# Altium schematic symbol library Capacitor.SchLib: 113 symbols (part 2 of 3)
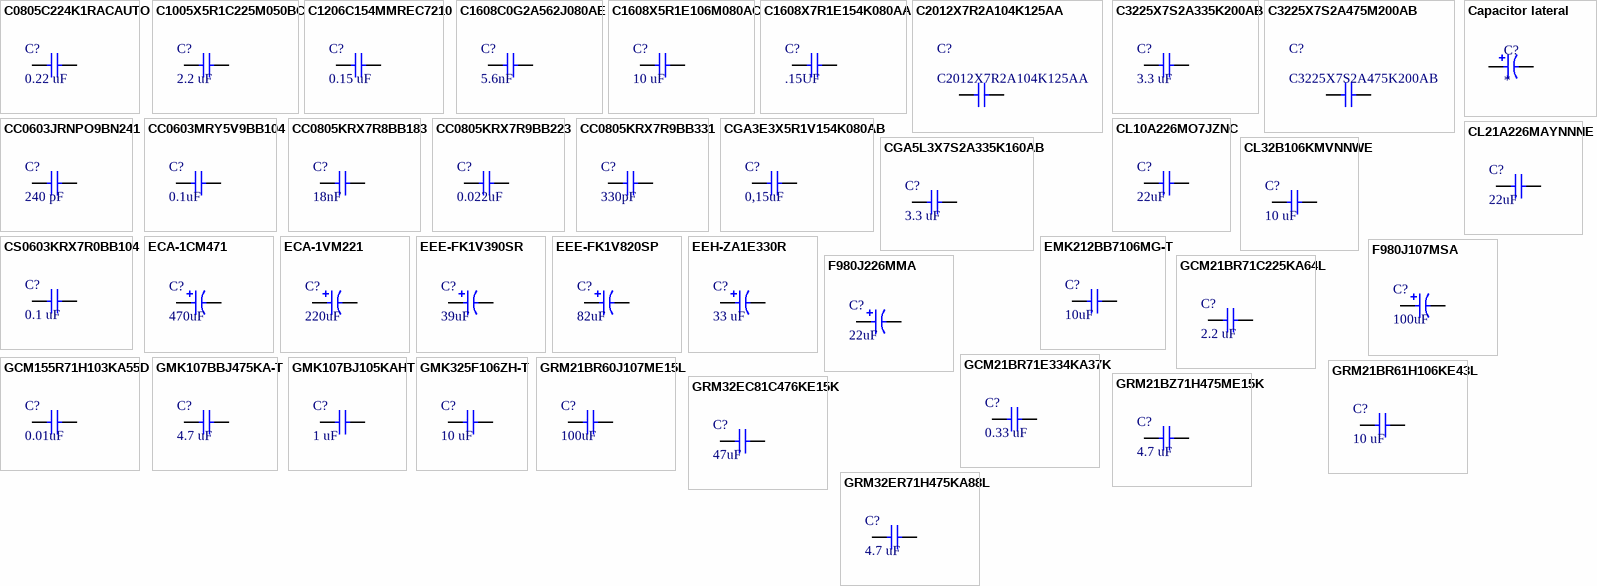
[diagram p3: symbols C0805C224K1RACAUTO to GRM32ER71H475KA88L]

## C1206C154MMREC7210
designator C?, comment 0.15 uF
CAP CER 150nF 63V X7R 1206; Manufacturer: KEMET; Part Number: C1206C154MMREC7210; Tolerance: 20%; Voltage - Rated: 63 VDC; Library Control - Checked Footprint: Yes; Library Control - Person that Checked Footprint: Cage; Supplier 1: Mouser; Category: Ceramic capacitor; Price: 1=0,30 10=0,208 100=0,105 1000=0,064 (USD); Supplier Part Number 1: 80-C1206C154MMRECLR; Library Ref: Capacitor; Operating Temperature: -55 ~125ºC; Package / Case: 1206(3216 Metric); Size / Dimension: 3.2 mm L  x 1.6 mm W x 1.6 mm H; Value: 0.15 uF; ESR: -; Dieletric: X7R; Library Control - Checked Schematic: Yes; Library Control - Last Update: 25/08/22; Library Control - Person that Checked Schematic: Cage; Library Control - Person that did the Last Update Footprint: Cage; Library Control - Person that did the Last Update Schematic: Cage; ComponentLink1Description: Datasheet; ComponentLink1URL: https://br.mouser.com/datasheet/2/212/1/KEM_C1090_X7R_ESD-1103328.pdf; ComponentLink2Description: Mouser Link; ComponentLink2URL: https://br.mouser.com/ProductDetail/KEMET/C1206C154MMREC7210?qs=%2Fha2pyFaduiTiPynh%252BZK1%2FpR7hi5ocWbHoFQjooUfsZooXZx5Z%252BDV11yHKZTkCpA
footprint C1206
pins: 1, 2

## C1608C0G2A562J080AE
designator C?, comment 5.6nF
CAP CER 5.6nF 100V C0G 0603; Manufacturer: TDK; Part Number: C1608C0G2A562J080AE; Tolerance: 5%; Voltage - Rated: 100 VDC; Library Control - Checked Footprint: Yes; Library Control - Person that Checked Footprint: Cage; Supplier 1: Mouser; Category: Ceramic Capacitor; Price: 1=0,31 10=0,216 100=0,123 (USD); Supplier Part Number 1: 810-C1608C0G2A562J08; Library Ref: Capacitor; Operating Temperature: -55 °C ~125 °C; Package / Case: 0603(1608 metric); Size / Dimension: 1.6 mm L x 0.8 mm W x 0.8 mm H; Value: 5.6nF; Dieletric: C0G; Library Control - Checked Schematic: Yes; Library Control - Last Update: 25/08/2022; Library Control - Person that Checked Schematic: Cage; Library Control - Person that did the Last Update Footprint: Cage; Library Control - Person that did the Last Update Schematic: Cage; ComponentLink1Description: Datasheet; ComponentLink1URL: https://product.tdk.com/system/files/dam/doc/product/capacitor/ceramic/mlcc/catalog/mlcc_commercial_soft_en.pdf; ComponentLink2Description: Mouser Link; ComponentLink2URL: https://www.mouser.com/ProductDetail/TDK/C1608C0G2A562J080AE?qs=%2Fha2pyFaduh%2FHzsk5TCUrvkOTpMz09iYWDzauq7OToIM6Wx9n2NG8wyg6vMjF7%252Bz; ComponentLink3Description: ESR; ComponentLink3URL: https://product.tdk.com/en/search/capacitor/ceramic/mlcc/info?part_no=C1608C0G2A562J080AE
footprint C0603
pins: 1, 2

## C1608X5R1E106M080AC
designator C?, comment 10 uF
CAP CER 10uF 25V X5R 0603; Manufacturer: TDK; Part Number: C1608X5R1E106M080AC; Tolerance: 20%; Voltage - Rated: 25 VDC; Library Control - Checked Footprint: Yes; Library Control - Person that Checked Footprint: Nikaum; Supplier 1: MOUSER; Category: Ceramic Capacitor; Price: 1= 0,82, 10= 0,581, 100= 0,382 (USD); Supplier Part Number 1: 810-C1608X5R1E106M; Library Ref: Capacitor; Operating Temperature: -55 C ~ 85 C; Package / Case: 0603 (1608 Metric); Size / Dimension: 1,60 L x 0,80 W x 0,80 H; Value: 10 uF; Dieletric: X5R; Library Control - Checked Schematic: Yes; Library Control - Last Update: 28/06/2021 00:27; Library Control - Person that Checked Schematic: Nikaum; Library Control - Person that did the Last Update Footprint: Nikaum; Library Control - Person that did the Last Update Schematic: Nikaum; ComponentLink1Description: Datasheet; ComponentLink1URL: https://product.tdk.com/system/files/dam/doc/product/capacitor/ceramic/mlcc/catalog/mlcc_commercial_general_en.pdf; ComponentLink2Description: Mouser Link; ComponentLink2URL: https://br.mouser.com/ProductDetail/TDK/C1608X5R1E106M080AC?qs=dfay7wIA1uGdHfZTkqsICA%3D%3D; ComponentLink3Description: ESR; ComponentLink3URL: https://product.tdk.com/en/search/capacitor/ceramic/mlcc/info?part_no=C1608X5R1E106M080AC
footprint C0603
pins: 1, 2

## C1608X7R1E154K080AA
designator C?, comment .15UF
CAP CER .15UF 25V X7R 0603; Manufacturer: MLCC; Tolerance: 10%; Supplier 1: Mouser; Part Number: https://product.tdk.com/system/files/dam/doc/product/capacitor/ceramic/mlcc/catalog/mlcc_commercial_general_en.pdf; Category: Capacitor; Price: 1 = 0.13 USD - 10 = 0.054USD - 100 = 0.044; Supplier Part Number 1: 810-C1608X7R1E154K; Library Ref: Capacitores; Operating Temperature: -55 to +125°C; Package / Case: 0603; Value: .15UF; Voltage - Rated: 25V; Dieletric: X7R; ComponentLink1Description: Mouser Link; ComponentLink1URL: https://br.mouser.com/ProductDetail/TDK/C1608X7R1E154K080AA?qs=NRhsANhppD%252BuvsvmnZxrzg%3D%3D; ComponentLink2Description: Datasheet; ComponentLink2URL: https://product.tdk.com/system/files/dam/doc/product/capacitor/ceramic/mlcc/catalog/mlcc_commercial_general_en.pdf
footprint C0603
pins: 1, 2

## C2012X7R2A104K125AA
designator C?
CAP CER 0.1uF 100V X7R 0805; Manufacturer: TDK; Dielectric Material: Ceramic; Value: 100nF; Multilayer: Yes; Tolerance  (fill in as +-): 10%; Supplier: Avnet; Supplier Part Number: C2012X7R2A104K125A; Part Number: C2012X7R2A104K125AA; RoHS: Yes; Category: Ceramic Capacitors; Stock: 26000; Pricing: 2000=0,0249, 4000=0,0243, 8000=0,0237, 12000=0,0231, 16000=0,0225 (USD); Mounting Technology: Surface Mount; Pins: 2; Package Shape: Rectangular; Case/Package: 0805; Terminal Finish: Nickel; Min Operating Temperature: -55°C; Max Operating Temperature: 125°C; JESD-609 Code: e3; Capacitor Type: Ceramic; Package Style: SMTMeter; Packaging: Tape and Reel; Tolerance (fill in as +-): 10%; Rated DC Voltage (URdc): 100V; Temperature Characteristics Code: X7R; Termination: Wraparound; Length: 2mm; Width: 1.25mm; Height: 1.25mm; Reach SVHC Compliant: Yes; RoHS Compliant: Yes; ComponentLink1URL: https://datasheet.ciiva.com:443/pdfs/VipMasterIC/IC/TDKC/TDKC-S-A0008591847/TDKC-S-A0008591847-1.pdf?src-supplier=IHS+Markit; ComponentLink1Description: https://datasheet.ciiva.com:443/pdfs/VipMasterIC/IC/TDKC/TDKC-S-A0008591847/TDKC-S-A0008591847-1.pdf?src-supplier=IHS+Markit; ComponentLink2URL: https://datasheet.ciiva.com/24216/c2012x7r2a104k125aa-264955-24216361.pdf?src-supplier=Mouser; ComponentLink2Description: https://datasheet.ciiva.com/24216/c2012x7r2a104k125aa-264955-24216361.pdf?src-supplier=Mouser; ComponentLink3URL: https://datasheet.ciiva.com/11788/0900766b80fc5cba-11788142.pdf?src-supplier=Rs; ComponentLink3Description: https://datasheet.ciiva.com/11788/0900766b80fc5cba-11788142.pdf?src-supplier=Rs; ComponentLink4URL: https://datasheet.ciiva.com/28602/1484596-28602235.pdf?src-supplier=Element14; ComponentLink4Description: https://datasheet.ciiva.com/28602/1484596-28602235.pdf?src-supplier=Element14; ComponentLink5URL: https://datasheet.ciiva.com/26834/getdatasheetpartid-741920-26834437.pdf?src-supplier=Verical; ComponentLink5Description: https://datasheet.ciiva.com/26834/getdatasheetpartid-741920-26834437.pdf?src-supplier=Verical; ComponentLink6URL: https://datasheet.ciiva.com/16427/e413-c-16427806.pdf?src-supplier=Future+Electronics; ComponentLink6Description: https://datasheet.ciiva.com/16427/e413-c-16427806.pdf?src-supplier=Future+Electronics; ComponentLink7URL: https://datasheet.ciiva.com/7975/1833281-7975109.pdf?src-supplier=Element14; ComponentLink7Description: https://datasheet.ciiva.com/7975/1833281-7975109.pdf?src-supplier=Element14
footprint C0805
pins: 1, 2

## C3225X7S2A335K200AB
designator C?, comment 3.3 uF
CAP CER 3.3uF 100V X7S 1210; Manufacturer: TDK; Part Number: C3225X7S2A335K200AB; Tolerance: 10%; Voltage - Rated: 100 VDC; Library Control - Checked Footprint: Yes; Library Control - Person that Checked Footprint: Nikuam; Library Control - Person that Checked Schematic: Nikaum; Supplier 1: Mouser; Category: Ceramic Capacitor; Price: 1= 0,88, 10= 0,526, 100= 0,444 (USD); Supplier Part Number 1: 810-C3225X7S2A335K; Library Ref: Capacitor; Operating Temperature: -55 C ~ 125 C; Package / Case: 1210 (3225 Metric); Size / Dimension: 3,20 L x 2,50 W x 2,00 H; Value: 3.3 uF; Dieletric: X7S; Library Control - Checked Schematic: Yes; Library Control - Last Update: 28/06/2021 00:33; Library Control - Person that did the Last Update Footprint: Nikaum; Library Control - Person that did the Last Update Schematic: Nikaum; ComponentLink1Description: Datasheet; ComponentLink1URL: https://product.tdk.com/system/files/dam/doc/product/capacitor/ceramic/mlcc/catalog/mlcc_commercial_midvoltage_en.pdf; ComponentLink2Description: Mouser Link; ComponentLink2URL: https://br.mouser.com/ProductDetail/TDK/C3225X7S2A335K200AB?qs=NRhsANhppD%2FUFz8kLtE2nA%3D%3D; ComponentLink3Description: ESR; ComponentLink3URL: https://product.tdk.com/en/search/capacitor/ceramic/mlcc/info?part_no=C3225X7S2A335K200AB
footprint C1210
pins: 1, 2

## C3225X7S2A475M200AB
designator C?, comment C3225X7S2A475K200AB
CAP CER 4.7uF 100V X7S 1210; Manufacturer: TDK; Dielectric Material: Ceramic; Multilayer: Yes; Tolerance  (fill in as +-): 10%; Supplier: Avnet; Supplier Part Number: C3225X7S2A475K200A; Part Number: C3225X7S2A475K200AB; RoHS: Yes; Category: Ceramic Capacitors; Stock: 2000; Pricing: 1000=0,35198 (USD); Mounting Technology: Surface Mount; Pins: 2; Package Shape: Rectangular; Case/Package: 1210; Terminal Finish: Nickel; Min Operating Temperature: -55°C; Max Operating Temperature: 125°C; JESD-609 Code: e3; Value: 4.7uF; Capacitor Type: Ceramic; Package Style: SMTMeter; Packaging: Tape and Reel; Tolerance (fill in as +-): 10%; Rated DC Voltage (URdc): 100V; Temperature Characteristics Code: X7S; Termination: Wraparound; Length: 3.2mm; Width: 2.5mm; Height: 2mm; Reach SVHC Compliant: Yes; RoHS Compliant: Yes; ComponentLink1URL: https://datasheet.ciiva.com:443/pdfs/VipMasterIC/IC/TDKC/TDKC-S-A0008591847/TDKC-S-A0008591847-1.pdf?src-supplier=IHS+Markit; ComponentLink1Description: https://datasheet.ciiva.com:443/pdfs/VipMasterIC/IC/TDKC/TDKC-S-A0008591847/TDKC-S-A0008591847-1.pdf?src-supplier=IHS+Markit; ComponentLink2URL: https://datasheet.ciiva.com/24217/c3225x7s2a475k200ab-265486-24217083.pdf?src-supplier=Mouser; ComponentLink2Description: https://datasheet.ciiva.com/24217/c3225x7s2a475k200ab-265486-24217083.pdf?src-supplier=Mouser; ComponentLink3URL: https://datasheet.ciiva.com/48671/mlcc-commercial-midvoltage-en-48671371.pdf?src-supplier=Avnet; ComponentLink3Description: https://datasheet.ciiva.com/48671/mlcc-commercial-midvoltage-en-48671371.pdf?src-supplier=Avnet; ComponentLink4URL: https://datasheet.ciiva.com/23803/1796654-23803052.pdf?src-supplier=Newark; ComponentLink4Description: https://datasheet.ciiva.com/23803/1796654-23803052.pdf?src-supplier=Newark; ComponentLink5URL: https://datasheet.ciiva.com/16498/mid-volt-b11-16498735.pdf?src-supplier=Future+Electronics; ComponentLink5Description: https://datasheet.ciiva.com/16498/mid-volt-b11-16498735.pdf?src-supplier=Future+Electronics; ComponentLink6URL: https://datasheet.ciiva.com/28620/mlcc-commercial-general-en-28620697.pdf?src-supplier=Element14; ComponentLink6Description: https://datasheet.ciiva.com/28620/mlcc-commercial-general-en-28620697.pdf?src-supplier=Element14; ComponentLink7URL: https://datasheet.ciiva.com/22725/1913358-22725605.pdf?src-supplier=Element14; ComponentLink7Description: https://datasheet.ciiva.com/22725/1913358-22725605.pdf?src-supplier=Element14; ComponentLink8URL: https://datasheet.ciiva.com/22694/1571323-22694186.pdf?src-supplier=Element14; ComponentLink8Description: https://datasheet.ciiva.com/22694/1571323-22694186.pdf?src-supplier=Element14
footprint C1210
pins: 1, 2

## Capacitor lateral
designator C?
Capacitor eletrolitico lateralizado na placa
footprint Capacitor lateral
pins: 1 (power), 2 (power)

## CC0603JRNPO9BN241
designator C?, comment 240 pF
CAP CER 240pF 50V C0G 0603; Manufacturer: Yageo; Part Number: CC0603JRNPO9BN241; Tolerance: 5%; Voltage - Rated: 50VDC; Dieletric: C0G (NP0); Supplier 1: Mouser; Category: Ceramic capacitor; Price: 1=0.21 10=0.15 100=0.07 1000=0.04 (USD); Supplier Part Number 1: 603-CC603JRNPO9BN241; Library Ref: Capacitor; Operating Temperature: -55 ~125ºC; Package / Case: 0603(1608 metric); Size / Dimension: 0.8 mm W x 1.6 mm L x 0.8 mm H; Value: 240 pF; ESR: -; ComponentLink1Description: Datasheet; ComponentLink1URL: https://br.mouser.com/datasheet/2/447/UPY_NP0X5R_01005_4V_to_25V_V10-3003057.pdf; ComponentLink2Description: Mouser Link; ComponentLink2URL: https://br.mouser.com/ProductDetail/YAGEO/CC0603JRNPO9BN241?qs=57cj7OiSijlgnoFSH5zVNA%3D%3D
footprint C0603
pins: 1, 2

## CC0603MRY5V9BB104
designator C?, comment 0.1uF
CAP CER 100nF 50V Y5V 0603; Manufacturer: Yageo; Part Number: CC0603MRY5V9BB104; Tolerance: 20%; ESR: 0.05; Library Control - Checked Footprint: Yes; Library Control - Person that Checked Footprint: Nikaum; Supplier 1: Mouser; Category: Ceramic Capacitor; Price: 1=0.10, 10=0.045, 100=0.02 (USD); Supplier Part Number 1: 603-C0603MRY5V9BB104; Library Ref: Capacitor; Operating Temperature: -30 C ~ 85 C; Package / Case: 0603 (1608 Metric); Size / Dimension: 0.8 mm W x 1.6 mm L x 0.8 mm H; Value: 0.1uF; Voltage - Rated: 50V; Dieletric: Y5V; Library Control - Checked Schematic: Yes; Library Control - Last Update: 27/06/2021 23:45; Library Control - Person that Checked Schematic: Nikaum; Library Control - Person that did the Last Update Footprint: Nikaum; Library Control - Person that did the Last Update Schematic: Nikaum; ComponentLink1Description: Datasheet; ComponentLink1URL: https://br.mouser.com/datasheet/2/447/UPY_GPHC_Y5V_6_3V_to_50V_9-1827116.pdf; ComponentLink2Description: Mouser Link; ComponentLink2URL: https://br.mouser.com/ProductDetail/Yageo/CC0603MRY5V9BB104?qs=%2Fha2pyFadujNIoVsm%2FhTYqJ%2F27rjqPGzJp9CkMDWOKJKZ5r0hJqeN0wGRPaLjXd0
footprint C0603
pins: 1, 2

## CC0805KRX7R8BB183
designator C?, comment 18nF
CAP CER 18nF 25V X7R 0805; Manufacturer: YAGEO; Part Number: CC0805KRX7R8BB183; Tolerance: 10%; Library Control - Checked Footprint: Yes; Library Control - Person that Checked Footprint: Cage; Library Control - Person that did the Last Update Footprint: Prisma; Supplier 1: Mouser; Category: Ceramic Capacitor; Price: 1=0,17 10=0,108 100=0,051 (USD); Supplier Part Number 1: 603-CC805KRX7R8BB183; Library Ref: Capacitor; Operating Temperature: -55°C ~ 125°C; Package / Case: 0805(2012 Metric); Size / Dimension: 2mm x 1.25mm x 1.45mm; Value: 18nF; Voltage - Rated: 25V; ESR: -; Dieletric: X7R; Library Control - Checked Schematic: Yes; Library Control - Last Update: 22/08/22; Library Control - Person that Checked Schematic: Cage; Library Control - Person that did the Last Update Schematic: Prisma; ComponentLink1Description: Datasheet; ComponentLink1URL: https://br.mouser.com/datasheet/2/447/UPY_NP0X5R_01005_4V_to_25V_V10-3003057.pdf; ComponentLink2Description: Mouser Link; ComponentLink2URL: https://br.mouser.com/ProductDetail/YAGEO/CC0805KRX7R8BB183?qs=57cj7OiSijnVuin8Aiic9w%3D%3D
footprint C0805
pins: 1, 2

## CC0805KRX7R9BB223
designator C?, comment 0.022uF
CAP CER 22nF 50V X7R 0805; Manufacturer: Yageo; Part Number: CC0805KRX7R9BB223; Tolerance: 10%; ESR: 0.05; Library Control - Checked Footprint: Yes; Library Control - Person that Checked Footprint: Nikaum; Supplier 1: Mouser; Category: Ceramic Capacitor; Price: 1=0.12, 10=0.08, 100=0.037 (USD); Supplier Part Number 1: 603-CC805KRX7R9BB223; Library Ref: Capacitor; Operating Temperature: -55 C ~ 125 C; Package / Case: 0805 (2012 Metric); Size / Dimension: 2,00 L x 1,25 W x 0,60 H; Value: 0.022uF; Voltage - Rated: 50V; Dieletric: X7R; Library Control - Checked Schematic: Yes; Library Control - Last Update: 27/06/2021 23:51; Library Control - Person that Checked Schematic: Nikaum; Library Control - Person that did the Last Update Footprint: Nikaum; Library Control - Person that did the Last Update Schematic: Nikaum; ComponentLink1Description: Datasheet; ComponentLink1URL: https://br.mouser.com/datasheet/2/447/UPY_GPHC_X7R_6_3V_to_50V_20-1995650.pdf; ComponentLink2Description: Mouser Link; ComponentLink2URL: https://br.mouser.com/ProductDetail/Yageo/CC0805KRX7R9BB223?qs=%2Fha2pyFaduhNpscxq1sti6SBX%2FsNUcHVvYovyvuH01Fd31rmDpwj9NJuQiKX%2FEPC
footprint C0805
pins: 1, 2

## CC0805KRX7R9BB331
designator C?, comment 330pF
CAP CER 330pF 50V X7R 0805; Manufacturer: Yageo; Part Number: CC0805KRX7R9BB331; Tolerance: 10%; ESR: 0.05; Library Control - Checked Footprint: Yes; Library Control - Person that Checked Footprint: Nikaum; Supplier 1: Mouser; Category: Ceramic Capacitor; Price: 1=0.12, 10=0.083, 100=0.039 (USD); Supplier Part Number 1: 603-CC805KRX7R9BB331; Library Ref: Capacitor; Operating Temperature: -55 C ~ 125 C; Package / Case: 0805 (2012 Metric); Size / Dimension: 2,00 L x 1,25 W x 0,60 H; Value: 330pF; Voltage - Rated: 50V; Dieletric: X7R; Library Control - Checked Schematic: Yes; Library Control - Last Update: 27/06/2021 23:53; Library Control - Person that Checked Schematic: Nikaum; Library Control - Person that did the Last Update Footprint: Nikaum; Library Control - Person that did the Last Update Schematic: Nikaum; ComponentLink1Description: Datasheet; ComponentLink1URL: https://br.mouser.com/datasheet/2/447/UPY_GPHC_X7R_6_3V_to_50V_20-1995650.pdf; ComponentLink2Description: Mouser Link; ComponentLink2URL: https://br.mouser.com/ProductDetail/Yageo/CC0805KRX7R9BB331?qs=%2Fha2pyFaduhNpscxq1sti6SBX%2FsNUcHVfYCJFeu65yqye3sdCJm%252B%252BSPd8pfuI7w1
footprint C0805
pins: 1, 2

## CGA3E3X5R1V154K080AB
designator C?, comment 0,15uF
CAP CER 150nF 35V X5R 0603; Manufacturer: TDK; Part Number: CGA3E3X5R1V154K080AB; Tolerance: 10%; Voltage - Rated: 35 VDC; Library Control - Checked Schematic: Yes; Library Control - Person that Checked Footprint: Stéfany (Sster); Library Control - Person that did the Last Update Schematic: Maria Laura; Supplier 1: Mouser; Category: Ceramic Capacitor; Price: 1=0,24 10=0,163 100=0,083 (USD); Supplier Part Number 1: 810-CGA3E3X5R1V154KB; Library Ref: Capacitor; Operating Temperature: -55 C ~85 C; Package / Case: 0603(1608 metric); Size / Dimension: 1.6 mm L x 0.8 mm W x 0.8 mm H; Value: 0,15uF; ESR: https://product.tdk.com/en/search/capacitor/ceramic/mlcc/info?part_no=CGA3E3X5R1V154K080AB; Dieletric: X5R; Library Control - Last Update: 09/09/2021 15:04; Library Control - Person that Checked Schematic: Stéfany (Sster); ComponentLink1Description: Datasheet; ComponentLink1URL: https://product.tdk.com/system/files/dam/doc/product/capacitor/ceramic/mlcc/catalog/mlcc_automotive_general_en.pdf; ComponentLink2Description: Mouser Link; ComponentLink2URL: https://www.mouser.com/ProductDetail/TDK/CGA3E3X5R1V154K080AB?qs=xLDY6iXSiQZeepRP8xUtyQ%3D%3D; ComponentLink3Description: ESR; ComponentLink3URL: https://product.tdk.com/en/search/capacitor/ceramic/mlcc/info?part_no=CGA3E3X5R1V154K080AB
footprint C0603
pins: 1, 2

## CGA5L3X7S2A335K160AB
designator C?, comment 3.3 uF
CAP CER 3.3 uF 100V X7S 1206; Manufacturer: TDK; Part Number: CGA5L3X7S2A335K160AB; Tolerance: 10%; Voltage - Rated: 100 VDC; Library Control - Checked Footprint: Yes; Supplier 1: Mouser; Category: Ceramic capacitor; Price: 1=0,30 10=0,208 100=0,105 1000=0,064 (USD); Supplier Part Number 1: 810-CGA5L3X7S2A335KB; Library Ref: Capacitor; Operating Temperature: -55 ~125ºC; Package / Case: 1206(3216 Metric); Size / Dimension: 3.2 mm L  x 1.6 mm W x 1.6 mm H; Value: 3.3 uF; ESR: -; Dieletric: X7S; Library Control - Checked Schematic: Yes; ComponentLink1Description: Datasheet; ComponentLink1URL: https://product.tdk.com/system/files/dam/doc/product/capacitor/ceramic/mlcc/catalog/mlcc_automotive_midvoltage_en.pdf; ComponentLink2Description: Mouser Link; ComponentLink2URL: https://br.mouser.com/ProductDetail/TDK/CGA5L3X7S2A335K160AB?qs=Zt%252BKPUOg4oe54GqqT0Ttwg%3D%3D
footprint C1206
pins: 1, 2

## CL10A226MO7JZNC
designator C?, comment 22uF
CAP CER 22uF 16V X5R 0603; Manufacturer: Samsung; Part Number: CL10A226MO7JZNC; Tolerance: 20%; Library Control - Checked Footprint: Yes; Library Control - Person that Checked Footprint: Cage; Supplier 1: Mouser; Category: Ceramic Capacitors; Price: 1 = 0,66, 10=0,465, 100=0,306 (USD); Supplier Part Number 1: 187 - CL10A226MO7JZNC; Library Ref: Capacitor; Operating Temperature: -55°C ~ 85°C; Package / Case: 0603; Value: 22uF; Voltage - Rated: 16V; ESR: -; Dieletric: X5R; Library Control - Checked Schematic: Yes; Library Control - Last Update: 25/08/22; Library Control - Person that Checked Schematic: Cage; Library Control - Person that did the Last Update Footprint: Cage; Library Control - Person that did the Last Update Schematic: Cage; ComponentLink1Description: Datasheet; ComponentLink1URL: https://br.mouser.com/datasheet/2/585/MLCC-1837944.pdf; ComponentLink2Description: Mouser Link; ComponentLink2URL: https://br.mouser.com/ProductDetail/Samsung-Electro-Mechanics/CL10A226MO7JZNC?qs=xZ%2FP%252Ba9zWqb2i0I9rwAjeg%3D%3D
footprint C0603
pins: 1, 2

## CL21A226MAYNNNE
designator C?, comment 22uF
CAP CER 22uF 25V X5R 0805; Manufacturer: Samsung; Part Number: CL21A226MAYNNNE; Tolerance: 20%; ESR: 0.05; Library Control - Checked Footprint: Yes; Library Control - Person that Checked Footprint: Nikaum; Library Control - Person that did the Last Update Footprint: Prisma; Supplier 1: Mouser; Category: Ceramic Capacitor; Price: 1=0,38, 10=0,19, 100=0,14 (USD); Supplier Part Number 1: 187-CL21A226MAYNNNE; Library Ref: Capacitor; Operating Temperature: -55 C ~ 85 C; Package / Case: 0805 (2012 metric); Size / Dimension: 2,00 L x 1,25 W x 1,35 H; Value: 22uF; Voltage - Rated: 25V; Dieletric: X5R; Library Control - Checked Schematic: Yes; Library Control - Last Update: 25/08/22; Library Control - Person that Checked Schematic: Nikaum; Library Control - Person that did the Last Update Schematic: Prisma; ComponentLink1Description: Datasheet; ComponentLink1URL: https://br.mouser.com/datasheet/2/585/MLCC-1837944.pdf; ComponentLink2Description: Mouser Link; ComponentLink2URL: https://br.mouser.com/ProductDetail/Samsung-Electro-Mechanics/CL21A226MAYNNNE?qs=%2Fha2pyFaduhiBLIsx5DshsHJNiaGLG%2F%2FQ%2FEW0rlhIwqpbRT7zlvlzaSNzFrrEIrv
footprint C0805
pins: 1, 2

## CL32B106KMVNNWE
designator C?, comment 10 uF
CAP CER 10uF 63V X7R 1210; Manufacturer: Samsung; Part Number: CL32B106KMVNNWE; Tolerance: 10%; Voltage - Rated: 63 VDC; Supplier 1: Mouser; Category: Ceramic Capacitor; Price: 1= 0,88, 10= 0,526, 100= 0,444 (USD); Supplier Part Number 1: 187-CL32B106KMVNNWE; Library Ref: Capacitor; Operating Temperature: -55 C ~ 125 C; Package / Case: 1210 (3225 Metric); Size / Dimension: 3,20 L x 2,50 W x 2,00 H; Value: 10 uF; Dieletric: X7R; ComponentLink1Description: Datasheet; ComponentLink1URL: https://br.mouser.com/datasheet/2/585/MLCC-1837944.pdf; ComponentLink2Description: Mouser Link; ComponentLink2URL: https://br.mouser.com/ProductDetail/Samsung-Electro-Mechanics/CL32B106KMVNNWE?qs=xZ%2FP%252Ba9zWqaEMBbSgKy8gQ%3D%3D
footprint C1210
pins: 1, 2

## CS0603KRX7R0BB104
designator C?, comment 0.1 uF
CAP CER 0.1 uF 100V X7R 0603; Manufacturer: Yageo; Part Number: CS0603KRX7R0BB104; Tolerance: 10%; Library Control - Checked Footprint: Yes; Supplier 1: Mouser; Category: Ceramic Capacitors; Price: 1=0,120, 10=0,065, 100=0,033 (USD); Supplier Part Number 1: 603-CS0603KRX70BB104; Library Ref: Ceramic Capacitors; Operating Temperature: -55°C ~ 125°C; Package / Case: 0603 (1608 Metric); Size / Dimension: 1.6 mm L x   0.8 mm W x  0.8 mm H; Value: 0.1 uF; Voltage - Rated: 100V; Dieletric: X7R; Library Control - Checked Schematic: Yes; ComponentLink1Description: Datasheet; ComponentLink1URL: https://br.mouser.com/datasheet/2/447/UPY_ST_NPOX7R_16V_to_3KV_8-3003022.pdf; ComponentLink2Description: Mouser Link; ComponentLink2URL: https://br.mouser.com/ProductDetail/YAGEO/CS0603KRX7R0BB104?qs=CNuWj9FTWYDXHSQFl2xZaQ%3D%3D
footprint C0603
pins: 1, 2

## ECA-1CM471
designator C?, comment 470uF
CAP POL 470uF 16V 20% 11.5mx8mm; Manufacturer: Panasonic; Part Number: ECA-1CM471; Dieletric: Aluminium; Library Control - Checked Footprint: Yes; Library Control - Person that Checked Footprint: Cage; Supplier 1: Mouser; Category: Aluminium Eletrolytic Capacitor; Price: 1 = 0,39, 10=0,272, 100=0,164 (USD); Supplier Part Number 1: 667-ECA-1CM471; Library Ref: Capacitor; Operating Temperature: -40 C ~ 85 C; Package / Case: Radial; Size / Dimension: 8,00 D x 11,50 L x 3,50 LS; Tolerance: 20%; Value: 470uF; Voltage - Rated: 16V; ESR: -; Library Control - Checked Schematic: Yes; Library Control - Last Update: 25/08/22; Library Control - Person that Checked Schematic: Cage; Library Control - Person that did the Last Update Footprint: Cage; Library Control - Person that did the Last Update Schematic: Cage; ComponentLink1Description: Datasheet; ComponentLink1URL: https://br.mouser.com/datasheet/2/315/ABA0000C1218-1131230.pdf; ComponentLink2Description: Mouser Link; ComponentLink2URL: https://br.mouser.com/ProductDetail/Panasonic/ECA-1CM471?qs=rwrfEU2MbmYmsOaInvnewQ%3D%3D
footprint PTH Ø8x11.5mm
pins: 1, 2

## ECA-1VM221
designator C?, comment 220uF
CAP POL 220uF 35V 20% 11.5mx8mm; Manufacturer: Panasonic; Part Number: ECA-1VM221; Dieletric: Aluminium; Library Control - Checked Footprint: Yes; Library Control - Person that Checked Footprint: Cage; Supplier 1: Mouser; Category: Aluminium Eletrolytic Capacitor; Price: 1 = 0,39 10=0,272 100=0,164 (USD); Supplier Part Number 1: 667-ECA-1VM221; Library Ref: Capacitor; Operating Temperature: -40 C ~ 85 C; Package / Case: Radial; Size / Dimension: 8,00 D x 11,50 L x 3,50 LS; Tolerance: 20%; Value: 220uF; Voltage - Rated: 35V; ESR: -; Library Control - Checked Schematic: Yes; Library Control - Last Update: 25/08/22; Library Control - Person that Checked Schematic: Cage; Library Control - Person that did the Last Update Footprint: Cage; Library Control - Person that did the Last Update Schematic: Cage; ComponentLink1Description: Datasheet; ComponentLink1URL: https://br.mouser.com/datasheet/2/315/ABA0000C1218-1131230.pdf; ComponentLink2Description: Mouser Link; ComponentLink2URL: https://br.mouser.com/ProductDetail/Panasonic/ECA-1VM221?qs=TMd%2FqrwkF8jzDq2TCVW7zA%3D%3D
footprint PTH Ø8x11.5mm
pins: 1, 2

## EEE-FK1V390SR
designator C?, comment 39uF
CAP POL SMD 39uF 35V 20% 5x5.8mm; Manufacturer: Panasonic; Part Number: EEE-FK1V390SR; ESR: 700mOhms; Dieletric: Aluminium; Library Control - Checked Footprint: Yes; Library Control - Person that Checked Footprint: Nikaum; Library Control - Person that did the Last Update Footprint: Prisma; Supplier 1: Mouser; Category: SMD Aluminium Eletrolytic Capacitor; Price: 1 = 0,49, 10=0,35, 100=0,231 (USD); Supplier Part Number 1: 667-EEE-FK1V390SR; Library Ref: Capacitor; Operating Temperature: -55 C ~ 105 C; Package / Case: SMD Mounted, Radial; Size / Dimension: 5,00 D x 5,80 L; Tolerance: 20%; Value: 39uF; Voltage - Rated: 35V; Library Control - Checked Schematic: Yes; Library Control - Last Update: 25/08/22; Library Control - Person that Checked Schematic: Nikaum; Library Control - Person that did the Last Update Schematic: Prisma; ComponentLink1Description: Datasheet; ComponentLink1URL: https://br.mouser.com/datasheet/2/315/ABA0000C1251-1138508.pdf; ComponentLink2Description: Mouser Link; ComponentLink2URL: https://br.mouser.com/ProductDetail/Panasonic/EEE-FK1V390SR?qs=%2Fha2pyFadug8Pl57h5%252BWR2eMrrWimnxXCpFskNzPXYGckKUHYfYmDqAggXEFpOO7
footprint Aluminum SMD
pins: 1, 2

## EEE-FK1V820SP
designator C?, comment 82uF
CAP POL SMD 82uF 35V 20% 6.3mm x 5.7mm; Manufacturer: Panasonic; Part Number: EEE-FK1V820SP; ESR: 360mOhms; Dieletric: Aluminium; Library Control - Checked Footprint: Yes; Library Control - Person that Checked Footprint: Nikaum; Library Control - Person that did the Last Update Footprint: Prisma; Supplier 1: Mouser; Category: Eletrolytic Capacitor; Price: 1 = 0,58, 10=0,415, 100=0,274 (USD); Supplier Part Number 1: 667-EEE-FK1V820SP; Library Ref: Capacitor; Operating Temperature: -55 C ~ 105 C; Package / Case: SMD Mounted, Radial; Size / Dimension: 6,30 D x 5,80 L; Tolerance: 20%; Value: 82uF; Voltage - Rated: 35V; Library Control - Checked Schematic: Yes; Library Control - Last Update: 25/08/22; Library Control - Person that Checked Schematic: Nikaum; Library Control - Person that did the Last Update Schematic: Prisma; ComponentLink1Description: Datasheet; ComponentLink1URL: https://br.mouser.com/datasheet/2/315/ABA0000C1251-1138508.pdf; ComponentLink2Description: Mouser Link; ComponentLink2URL: https://br.mouser.com/ProductDetail/Panasonic/EEE-FK1V820SP?qs=%2Fha2pyFadug8Pl57h5%252BWR0iCvTw1HLvwe2qObtFgbgoyyK%252BsNgHX%252BSEmXN6eogzq
footprint ALUMINUM SMD Ø6.3x5.7mm (Aluminum Electrolytic Capacitor, Body 6,70x6,70x5,80mm, IPC Low Density)
pins: 1, 2

## EEH-ZA1E330R
designator C?, comment 33 uF
CAP POL 33uF 25V X7R 5mm x 5.8mm; Manufacturer: Panasonic; Part Number: EEH-ZA1E330R; Tolerance: 20%; ESR: 80 mOhms; Dieletric: Aluminium; Library Control - Checked Footprint: Yes; Library Control - Person that Checked Footprint: Cage; Library Control - Person that did the Last Update Footprint: Prisma; Supplier 1: Mouser; Category: Aluminum Organic Polymer Capacitors; Price: 1= 1,46, 10= 1,16, 100= 0,866 (USD); Supplier Part Number 1: 667-EEH-ZA1E330R; Library Ref: Capacitor; Operating Temperature: -55C ~ +105C; Package / Case: Radial; Size / Dimension: 5mm x 5.8mm (DxL); Value: 33 uF; Voltage - Rated: 25V; Library Control - Checked Schematic: Yes; Library Control - Last Update: 25/08/22; Library Control - Person that Checked Schematic: Cage; Library Control - Person that did the Last Update Schematic: Prisma; ComponentLink1Description: Mouser Link; ComponentLink1URL: https://br.mouser.com/ProductDetail/Panasonic/EEH-ZA1E330R?qs=%2Fha2pyFadujEr1IWpHTRo27Kag%2FIHm4Z2ihP6QJF7P4OlKsb2nRpOQ%3D%3D; ComponentLink2Description: Datasheet; ComponentLink2URL: https://br.mouser.com/datasheet/2/315/ABA0000C1221-1280637.pdf
footprint CAPAE6553X61M (Aluminum Electrolytic Capacitor, Body 5,30x5,30x6,10mm, IPC Low Density)
pins: 1, 2

## EMK212BB7106MG-T
designator C?, comment 10uF
CAP CER 10uF 16V X7R 0805; Manufacturer: Taiyo Yuden; Part Number: EMK212BB7106MG-T; Tolerance: 20%; Voltage - Rated: 16V DC; Library Control - Checked Footprint: Yes; Library Control - Person that Checked Footprint: Cage; Library Control - Person that did the Last Update Footprint: Chico; Supplier 1: Mouser; Category: Ceramic Capacitors; Price: 1=0.42, 10=0.204, 100=0.175 (USD); Supplier Part Number 1: 963-EMK212BB7106MG-T; Library Ref: Capacitor; Operating Temperature: -55°C~+125°C; Package / Case: 0805; Size / Dimension: 1.25mm X 2mm X 1.45mm; Value: 10uF; Dieletric: X7R; Library Control - Checked Schematic: Yes; Library Control - Last Update: 22/08/22; Library Control - Person that Checked Schematic: Cage; Library Control - Person that did the Last Update Schematic: Cage; ComponentLink1Description: Datasheet; ComponentLink1URL: https://br.mouser.com/datasheet/2/396/mlcc02_e-1307760.pdf; ComponentLink2Description: Mouser Link; ComponentLink2URL: https://br.mouser.com/ProductDetail/Taiyo-Yuden/EMK212BB7106MG-T?qs=sGAEpiMZZMsh%252B1woXyUXj9%252BEWUGdOab8mJU%252BgghcgP8%3D
footprint C0805
pins: 1, 2

## F980J107MSA
designator C?, comment 100uF
CAP TAN 100uF 6.3V 0805; Manufacturer: AVX; Part Number: F980J107MSA; Tolerance: 20%; ESR: 8 Ohms using (100kHz); Dieletric: Tantalum; Library Control - Checked Footprint: Yes; Library Control - Person that Checked Footprint: Nikaum; Supplier 1: Mouser; Category: Tantalum Capacitor; Price: 1=0.87, 10=0.646, 100=0.443 (USD); Supplier Part Number 1: 581-F980J107MSA; Library Ref: Capacitor; Operating Temperature: -55 C ~ 125 C; Package / Case: 0805 (2012 Metric); Size / Dimension: 2,00 L x 1,25 W x 0,80 H; Value: 100uF; Voltage - Rated: 6.3V; Library Control - Checked Schematic: Yes; Library Control - Last Update: 27/06/2021 23:37; Library Control - Person that Checked Schematic: Nikaum; Library Control - Person that did the Last Update Footprint: Nikaum; Library Control - Person that did the Last Update Schematic: Nikaum; ComponentLink1Description: Datasheet; ComponentLink1URL: https://br.mouser.com/datasheet/2/40/AVX_F98%20DTSH%2008_16-1158749.pdf; ComponentLink2Description: Mouser Link; ComponentLink2URL: https://br.mouser.com/ProductDetail/AVX/F980J107MSA?qs=%2Fha2pyFaduiqmyJM1RWxJ6tWf%252BqxluChd36%252Bz6k56%252ByF7CmEPS5MIQ%3D%3D
footprint TANTALUM C0805
pins: 1, 2

## F980J226MMA
designator C?, comment 22uF
CAP TAN 22uF 6.3V 0603; Manufacturer: AVX; Part Number: F980J226MMA; Tolerance: 20%; ESR: 6 Ohms; Dieletric: Tantalum; Library Control - Checked Footprint: Yes; Library Control - Person that Checked Footprint: Nikaum; Library Control - Person that did the Last Update Footprint: Prisma; Supplier 1: Mouser; Category: Tantalum Capacitor; Price: 1 = 0,68, 10=0,478, 100=0,315 (USD); Supplier Part Number 1: 647-F980J226MMA; Library Ref: Capacitor; Operating Temperature: -55 C ~ 125 C; Package / Case: 0603 (1608 Metric); Size / Dimension: 1,60 L x 0,85 W x 0,80 H; Value: 22uF; Voltage - Rated: 6.3V; Library Control - Checked Schematic: Yes; Library Control - Last Update: 25/08/22; Library Control - Person that Checked Schematic: Nikaum; Library Control - Person that did the Last Update Schematic: Prisma; ComponentLink1Description: Datasheet; ComponentLink1URL: https://br.mouser.com/datasheet/2/40/AVX_F98%20DTSH%2008_16-1158749.pdf; ComponentLink2Description: Mouser Link; ComponentLink2URL: https://br.mouser.com/ProductDetail/AVX/F980J226MMA?qs=%2Fha2pyFadujX%2FtPo6us3LKqC08nSC7LuR55MTleiyuYwEisNTuy1Qg%3D%3D
footprint C0603
pins: 1, 2

## GCM21BR71C225KA64L
designator C?, comment 2.2 uF
CAP CER 2.2uF 16V X7R 0805; Manufacturer: MURATA ELECTRONICS; Part Number: GCM21BR71C225KA64L; Tolerance: 10%; Voltage - Rated: 16 VDC; Library Control - Checked Footprint: Yes; Library Control - Person that Checked Footprint: Cage; Supplier 1: Mouser; Category: Ceramic capacitor; Price: 1=0,41 10=0,283 100=0,169 1000=0,107 (USD); Supplier Part Number 1: 81-GCM21BR71C225KA4L; Library Ref: Capacitor; Operating Temperature: -55°C ~125ºC; Package / Case: 0805(2012 Metric); Size / Dimension: 2 mm L  x 1.25 mm W x 1.25 mm H; Value: 2.2 uF; ESR: -; Dieletric: X7R; Library Control - Checked Schematic: Yes; Library Control - Last Update: 25/08/22; Library Control - Person that Checked Schematic: Cage; Library Control - Person that did the Last Update Footprint: Cage; Library Control - Person that did the Last Update Schematic: Cage; ComponentLink1Description: Datasheet; ComponentLink1URL: https://br.mouser.com/ProductDetail/Murata-Electronics/GCM21BR71C225KA64L?qs=aEuGZpxfbxV0E5XH%252BwYupA%3D%3D; ComponentLink2Description: Mouser Link; ComponentLink2URL: https://br.mouser.com/ProductDetail/Murata-Electronics/GCM21BR71C225KA64L?qs=aEuGZpxfbxV0E5XH%252BwYupA%3D%3D
footprint C0805
pins: 1, 2

## GCM21BR71E334KA37K
designator C?, comment 0.33 uF
CAP CER 330nF 25V X7R 0805; Manufacturer: Murata Eletronics; Part Number: GCM21BR71E334KA37K; Tolerance: 10%; Voltage - Rated: 25 VDC; Library Control - Checked Footprint: Yes; Library Control - Person that Checked Footprint: Nikaum; Supplier 1: Mouser; Category: Ceramic Capacitor; Price: 1= 0,57, 10= 0,398, 100= 0,239 (USD); Supplier Part Number 1: 81-GCM21BR71E334KA7K; Library Ref: Capacitor; Operating Temperature: -55 C ~ 125 C; Package / Case: 0805 (2012 Metric); Size / Dimension: 2,00 L x 1,25 W x 1,25 H; Value: 0.33 uF; Dieletric: X7R; Library Control - Checked Schematic: Yes; Library Control - Last Update: 28/06/2021 00:57; Library Control - Person that Checked Schematic: Nikaum; Library Control - Person that did the Last Update Footprint: Nikaum; Library Control - Person that did the Last Update Schematic: Nikaum; ComponentLink1Description: Datasheet; ComponentLink1URL: https://br.mouser.com/datasheet/2/281/GCM21BR71E334KA37_01-1968656.pdf; ComponentLink2Description: Mouser Link; ComponentLink2URL: https://br.mouser.com/ProductDetail/Murata-Electronics/GCM21BR71E334KA37K?qs=N3Kl9KD794Tg%2FXM5q2uFQQ%3D%3D; ComponentLink3Description: ESR; ComponentLink3URL: https://www.murata.com/en-us/products/productdetail?partno=GCM21BR71E334KA37%23
footprint C0805
pins: 1, 2

## GCM155R71H103KA55D
designator C?, comment 0.01uF
CAP CER 10nF 50V X7R 0402; Manufacturer: MURATA ELECTRONICS; Part Number: GCM155R71H103KA55D; Tolerance: 10%; Voltage - Rated: 50VDC; Library Control - Checked Footprint: Yes; Library Control - Person that Checked Footprint: Cage; Supplier 1: Mouser; Category: Ceramic capacitor; Price: 1=0.10 10=0.05 100=0.018 1000=0.01 (USD); Supplier Part Number 1: 81-GCM155R71H103KA5D; Library Ref: Capacitor; Operating Temperature: -55 ~125ºC; Package / Case: 0402(1005 metric); Size / Dimension: 0.5 mm W x 1 mm L x 0.5 mm H; Value: 0.01uF; ESR: -; Dieletric: X7R; Library Control - Checked Schematic: Yes; Library Control - Last Update: 25/08/2022; Library Control - Person that Checked Schematic: Cage; Library Control - Person that did the Last Update Footprint: Cage; Library Control - Person that did the Last Update Schematic: Cage; ComponentLink1Description: Datasheet; ComponentLink1URL: https://br.mouser.com/datasheet/2/281/GCM155R71H103KA55_01-1965603.pdf; ComponentLink2Description: Mouser Link; ComponentLink2URL: https://br.mouser.com/ProductDetail/Murata-Electronics/GCM155R71H103KA55D?qs=aEuGZpxfbxUFaK62TPaKIA%3D%3D
footprint C0402
pins: 1, 2

## GMK107BBJ475KA-T
designator C?, comment 4.7 uF
CAP CER 4.7uF 35V X5R 0603; Manufacturer: TAIYO YUDEN; Part Number: GMK107BBJ475KA-T; Tolerance: 10 %; Voltage - Rated: 35 VDC; Library Control - Person that did the Last Update Footprint: Tatá; Supplier 1: Mouser; Category: Multilayer Ceramic Capacitors; Price: 1=0,45, 10=0,217, 50=0,217, 100=0,14, 1000=0,118, 10000=0,095 (USD); Supplier Part Number 1: 963-GMK107BBJ475KA-T; Library Ref: Capacitor; Operating Temperature: -55 ~ 85 C; Package / Case: 0603 (1608 metric); Size / Dimension: 1.6 mm x  0.8 mm; Value: 4.7 uF; ESR: -; Dieletric: X5R; Library Control - Last Update: 19/11/23; Library Control - Person that did the Last Update Schematic: Tatá; ComponentLink1Description: Mouser Link; ComponentLink1URL: https://br.mouser.com/ProductDetail/TAIYO-YUDEN/GMK107BBJ475KA-T?qs=xZ%2FP%252Ba9zWqa%2FCtiTdgsdvg%3D%3D; ComponentLink2Description: Datasheet; ComponentLink2URL: https://datasheet.octopart.com/GMK107BBJ475KA-T-Taiyo-Yuden-datasheet-149523865.pdf?src-supplier=Farnell
footprint C0603
pins: 1, 2

## GMK107BJ105KAHT
designator C?, comment 1 uF
CAP CER 1uF 35V X5R 0603; Manufacturer: TAIYO YUDEN; Part Number: GMK107BJ105KAHT; Tolerance: 10%; Voltage - Rated: 35 VDC; Library Control - Checked Footprint: Yes; Library Control - Person that Checked Footprint: Nikaum; Supplier 1: MOUSER; Category: Ceramic Capacitor; Price: 1= 0.16, 10= 0,095, 100= 0,049 (USD); Supplier Part Number 1: 963-GMK107BJ105KAHT; Library Ref: Capacitor; Operating Temperature: -55 C ~ 85 C; Package / Case: 0603 (1608 Metric); Size / Dimension: 1,60 L x 0,80 W x 0,90 H; Value: 1 uF; ESR: -; Dieletric: X5R; Library Control - Checked Schematic: Yes; Library Control - Last Update: 28/06/2021 00:40; Library Control - Person that Checked Schematic: Nikaum; Library Control - Person that did the Last Update Footprint: Nikaum; Library Control - Person that did the Last Update Schematic: Nikaum; ComponentLink1Description: Datasheet; ComponentLink1URL: https://br.mouser.com/datasheet/2/396/taiyo_yuden_12132018_mlcc11_hq_e-1510082.pdf; ComponentLink2Description: Mouser Link; ComponentLink2URL: https://br.mouser.com/ProductDetail/Taiyo-Yuden/GMK107BJ105KAHT?qs=%2Fha2pyFadugfgsXIlkotQ92wbBztYfVCYQK4eynXE%252B0k6svEXRnruHVeQhZpuewN
footprint C0603
pins: 1, 2

## GMK325F106ZH-T
designator C?, comment 10 uF
CAP CER 10uF 35V Y5V 1210; Manufacturer: TAIYO YUDEN; Part Number: GMK325F106ZH-T; Tolerance: -20 %, +80 %; Voltage - Rated: 35 VDC; Library Control - Checked Footprint: Yes; Library Control - Person that Checked Footprint: Nikaum; Library Control - Person that did the Last Update Footprint: Guilherme; Supplier 1: MOUSER; Category: Ceramic Capacitor; Price: 1=0,43, 10=0,252, 100= 0,157 (USD); Supplier Part Number 1: 963-GMK325F106ZH-T; Library Ref: Capacitor; Operating Temperature: -30 C ~ 85 C; Package / Case: 1210 (3225 Metric); Size / Dimension: 3,20 L x 2,50 W x 2,50 H; Value: 10 uF; ESR: -; Dieletric: Y5V; Library Control - Checked Schematic: Yes; Library Control - Last Update: 28/06/2021 00:42; Library Control - Person that Checked Schematic: Nikaum; Library Control - Person that did the Last Update Schematic: Nikaum; ComponentLink1Description: Datasheet; ComponentLink1URL: https://br.mouser.com/datasheet/2/396/taiyo_yuden_12132018_mlcc11_hq_e-1510082.pdf; ComponentLink2Description: Mouser Link; ComponentLink2URL: https://br.mouser.com/ProductDetail/Taiyo-Yuden/GMK325F106ZH-T?qs=%2Fha2pyFaduhOk8nAVfqJawU3cTWB3FiT1SOVkRMPnmGYS8Viy45jdLZMrR2Z8zty
footprint C1210
pins: 1, 2

## GRM21BR60J107ME15L
designator C?, comment 100uF
CAP CER 100uF 6.3V X5R 0805; Manufacturer: Murata; Part Number: GRM21BR60J107ME15L; Tolerance: 20%; Library Control - Checked Footprint: Yes; Library Control - Person that Checked Footprint: Cage; Library Control - Person that did the Last Update Footprint: Prisma; Supplier 1: Mouser; Category: Ceramic Capacitor; Price: 1=1.25 10=0.858 100=0.743 (USD); Supplier Part Number 1: 81-GRM21BR60J107ME5L; Library Ref: Capacitor; Operating Temperature: -55°C ~ 85°C; Package / Case: 0805(2012 Metric); Size / Dimension: 2mm x 1.25mm x 1.25mm; Value: 100uF; Voltage - Rated: 6.3V; ESR: -; Dieletric: X5R; Library Control - Checked Schematic: Yes; Library Control - Last Update: 22/08/22; Library Control - Person that Checked Schematic: Cage; Library Control - Person that did the Last Update Schematic: Prisma; ComponentLink1Description: Datasheet; ComponentLink1URL: https://br.mouser.com/datasheet/2/281/1/GRM21BR60J107ME15_01A-1986857.pdf; ComponentLink2Description: Mouser Link; ComponentLink2URL: https://br.mouser.com/ProductDetail/Murata-Electronics/GRM21BR60J107ME15L?qs=qSv5qXjCIG0V4cgMTBuIkA%3D%3D
footprint C0805
pins: 1, 2

## GRM21BR61H106KE43L
designator C?, comment 10 uF
CAP CER 10uF 50V X5R 0805; Manufacturer: MURATA ELECTRONICS; Part Number: GRM21BR61H106KE43L; Tolerance: 10%; Voltage - Rated: 50 VDC; Supplier 1: Mouser; Category: Ceramic Capacitors; Price: 1=0,28 10=0,193 100=0,098 1000=0,059 (USD); Supplier Part Number 1: 81-GRM21BR61H106KE3L; Library Ref: Capacitor; Operating Temperature: -55°C ~ 85°C; Package / Case: 0805(2012 metric); Size / Dimension: 2 mm L x 1.25 mm W x 0.85 mm H; ESR: -; Dieletric: X5R; ComponentLink1Description: Datasheet; ComponentLink1URL: https://br.mouser.com/datasheet/2/281/1/GRM21BR61H106KE43_01A-1986884.pdf; ComponentLink2Description: Mouser Link; ComponentLink2URL: https://br.mouser.com/ProductDetail/Murata-Electronics/GRM21BR61H106KE43L?qs=lYGu3FyN48cBZlIduWKclg%3D%3D; Value: 10 uF
footprint C0805
pins: 1, 2

## GRM21BZ71H475ME15K
designator C?, comment 4.7 uF
CAP CER 4.7uF 50V X7R 0805; Manufacturer: Murata; Part Number: GRM21BZ71H475ME15K; Tolerance: 20%; Library Control - Checked Footprint: Yes; Supplier 1: Mouser; Category: Ceramic Capacitor; Price: 1=1.25 10=0.858 100=0.743 (USD); Supplier Part Number 1: 81-GRM21BZ71H475ME5K; Library Ref: Capacitor; Operating Temperature: -55°C ~ 125°C; Package / Case: 0805(2012 Metric); Size / Dimension: 2mm x 1.25mm x 1.25mm; Value: 4.7 uF; Voltage - Rated: 50V; ESR: -; Dieletric: X7R; Library Control - Checked Schematic: Yes; ComponentLink1Description: Datasheet; ComponentLink1URL: https://br.mouser.com/datasheet/2/281/1/GRM21BZ71H475ME15_01A-1987158.pdf; ComponentLink2Description: Mouser Link; ComponentLink2URL: https://br.mouser.com/ProductDetail/Murata-Electronics/GRM21BZ71H475ME15K?qs=Ey7%2FXF42M3daPl2yRDjm3A%3D%3D
footprint C0805
pins: 1, 2

## GRM32EC81C476KE15K
designator C?, comment 47uF
CAP CER 47uF 16V X6S 1210; Manufacturer: Murata; Part Number: GRM32EC81C476KE15K; Tolerance: 10%; Library Control - Checked Footprint: Yes; Library Control - Person that Checked Footprint: Cage; Library Control - Person that did the Last Update Footprint: Prisma; Supplier 1: Mouser; Category: Ceramic Capacitor; Price: 1=0,59 10=0,314 100=0,274 (USD); Supplier Part Number 1: 81-GRM32EC81C476KE5K; Library Ref: Capacitor; Operating Temperature: -55°C ~ 105°C; Package / Case: 1210 (3225 metric); Size / Dimension: 3.2mm x 2.5mm x 2.5mm; Value: 47uF; Voltage - Rated: 16V; ESR: -; Dieletric: X6S; Library Control - Checked Schematic: Yes; Library Control - Last Update: 22/08/22; Library Control - Person that Checked Schematic: Cage; Library Control - Person that did the Last Update Schematic: Prisma; ComponentLink1Description: Datasheet; ComponentLink1URL: https://br.mouser.com/datasheet/2/281/1/GRM32EC81C476KE15_01A-1988154.pdf; ComponentLink2Description: Mouser Link; ComponentLink2URL: https://br.mouser.com/ProductDetail/Murata-Electronics/GRM32EC81C476KE15K?qs=pba5EUA0Y0ZfNhWUOosFbg%3D%3D
footprint C1210
pins: 1, 2

## GRM32ER71H475KA88L
designator C?, comment 4.7 uF
CAP CER 4.7 uF 63V X7R 1210; Manufacturer: Murata; Part Number: GRM32ER71H475KA88L; Tolerance: 10%; Voltage - Rated: 50 VDC; Supplier 1: Mouser; Category: Ceramic Capacitor; Price: 1= 0,88, 10= 0,526, 100= 0,444 (USD); Supplier Part Number 1: 81-GRM32R71H475KA88L; Library Ref: Capacitor; Operating Temperature: -55 C ~ 125 C; Package / Case: 1210 (3225 Metric); Size / Dimension: 3,20 L x 2,50 W x 2,00 H; Value: 4.7 uF; Dieletric: X7R; ComponentLink1Description: Datasheet; ComponentLink1URL: https://br.mouser.com/datasheet/2/281/1/GRM32ER71H475KA88_01A-1988266.pdf; ComponentLink2Description: Mouser Link; ComponentLink2URL: https://br.mouser.com/ProductDetail/Murata-Electronics/GRM32ER71H475KA88L?qs=IjyrXs0Hof%252B8EBN5DE4S3A%3D%3D
footprint C1210
pins: 1, 2

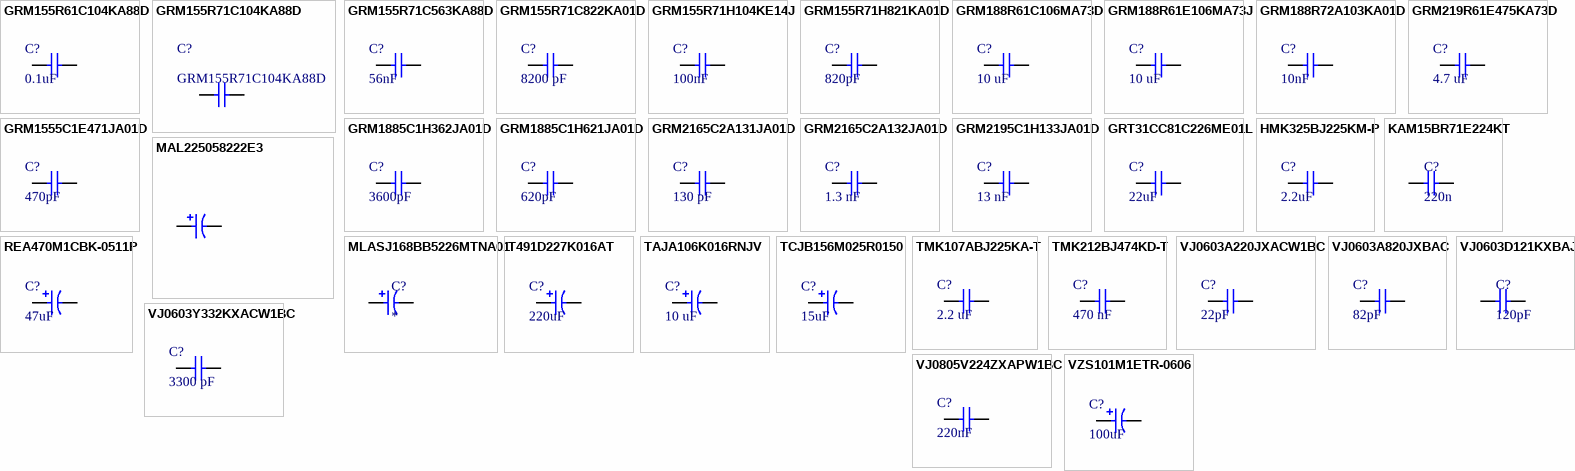
[diagram p2: symbols GRM155R61C104KA88D to VZS101M1ETR-0606]

## GRM155R61C104KA88D
designator C?, comment 0.1uF
CAP CER 100nF 16V X5R 0402; Manufacturer: Murata; Part Number: GRM155R61C104KA88D; Tolerance: 10%; Library Control - Checked Footprint: Yes; Library Control - Person that Checked Footprint: Cage; Supplier 1: Mouser; Category: Ceramic Capacitors; Price: 1 = 0,10, 10=0,024, 100=0,011 (USD); Supplier Part Number 1: 81-GRM155R61C104KA8D; Library Ref: Capacitor; Operating Temperature: -55°C ~ 85°C; Package / Case: 0402 (1005 Metric); Size / Dimension: 1,0 L x 0,5 W x 0,5 H; Value: 0.1uF; Voltage - Rated: 16V; ESR: -; Dieletric: X5R; Library Control - Checked Schematic: Yes; Library Control - Last Update: 25/08/22; Library Control - Person that Checked Schematic: Cage; Library Control - Person that did the Last Update Footprint: Cage; Library Control - Person that did the Last Update Schematic: Cage; ComponentLink1Description: Datasheet; ComponentLink1URL: https://br.mouser.com/datasheet/2/281/1/GRM155R61C104KA88_01A-1983743.pdf; ComponentLink2Description: Mouser Link; ComponentLink2URL: https://br.mouser.com/ProductDetail/Murata-Electronics/GRM155R61C104KA88D?qs=%2Fha2pyFadugsr51Fgcs3VGJIvx6dQb2fpcJyrxDKYTBEoW5q5paGTQ%3D%3D
footprint C0402
pins: 1, 2